# Altium schematic symbol library TI.SchLib: 93 symbols
Pins are listed as number, name and electrical type; pins without a type are passive.

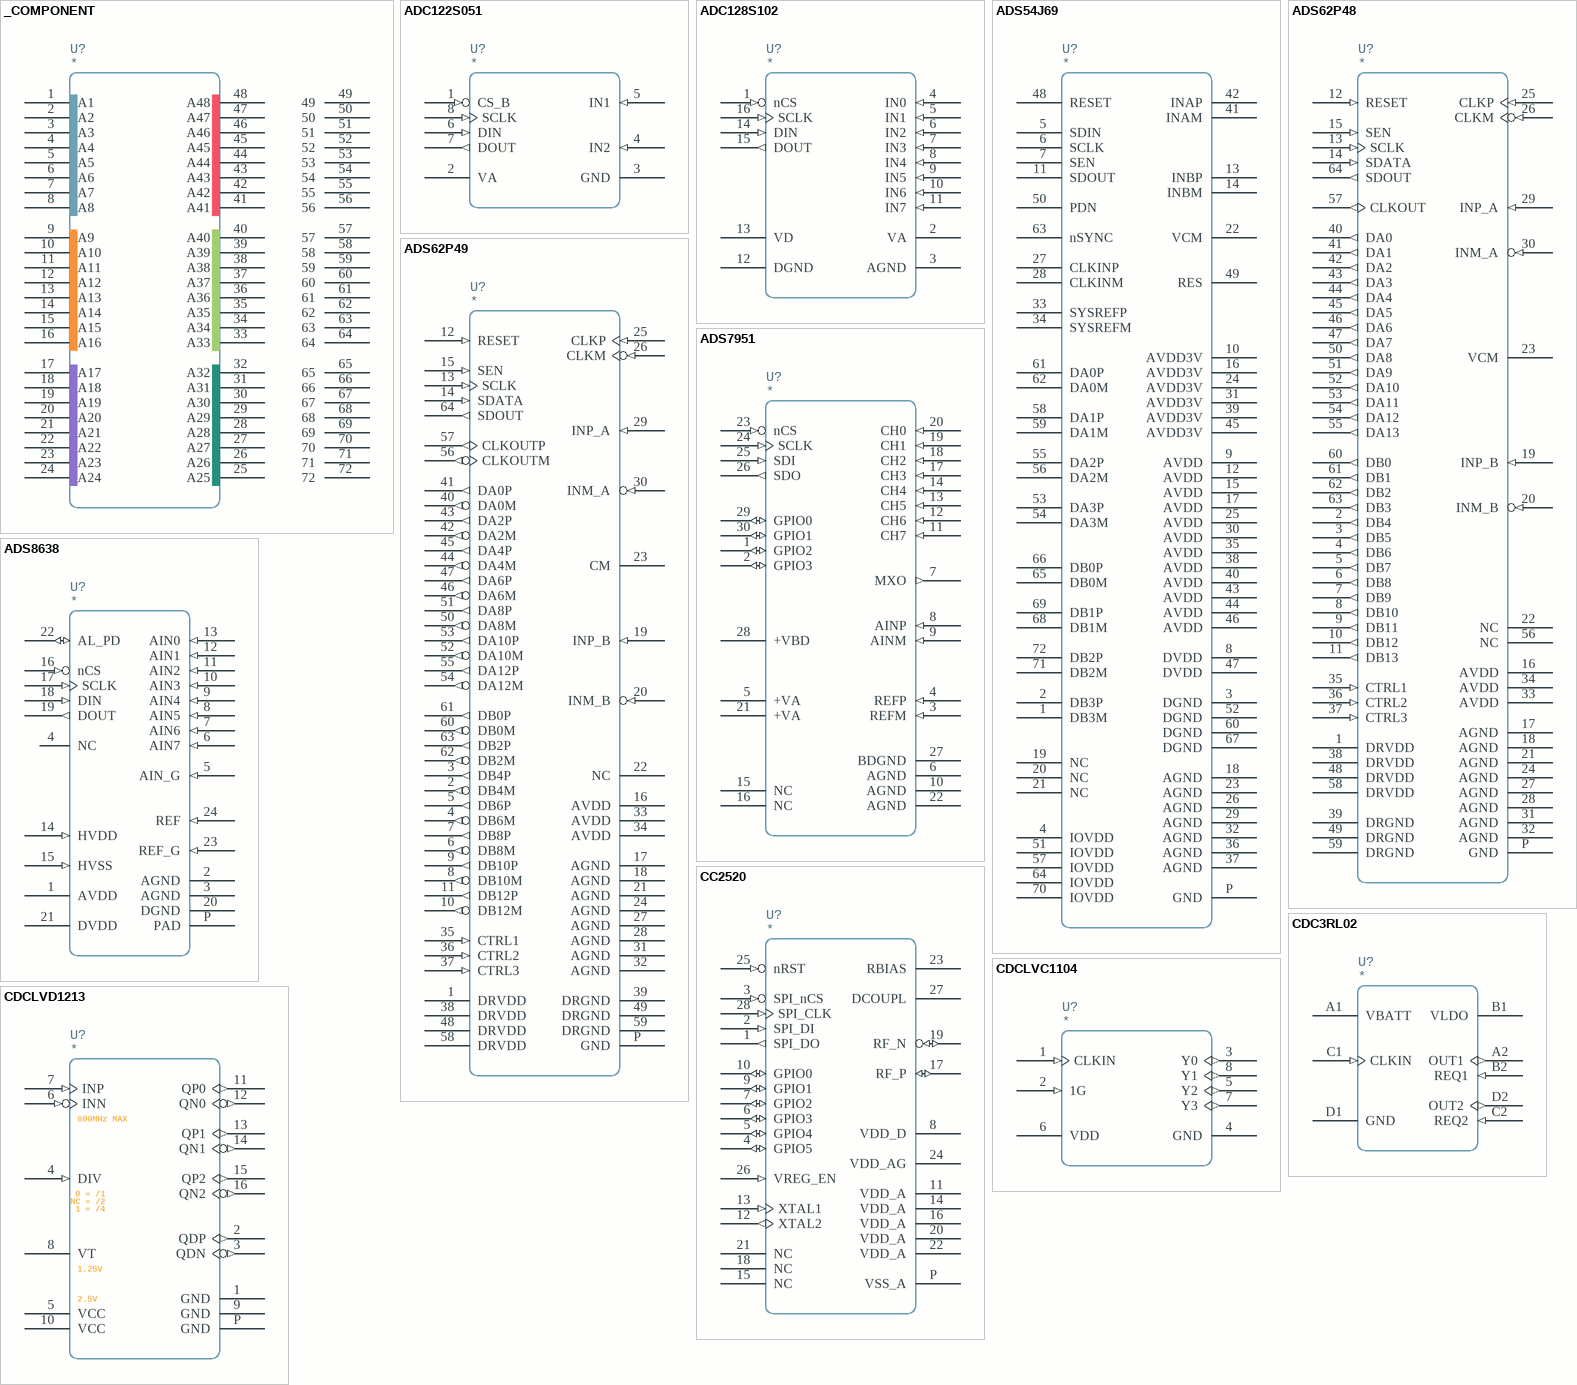
[diagram p0: symbols _COMPONENT to CDCLVD1213]

## _COMPONENT
designator U?
pins: 1 A1, 2 A2, 3 A3, 4 A4, 5 A5, 6 A6, 7 A7, 8 A8, 9 A9, 10 A10, 11 A11, 12 A12, 13 A13, 14 A14, 15 A15, 16 A16, 17 A17, 18 A18, 19 A19, 20 A20, 21 A21, 22 A22, 23 A23, 24 A24, 25 A25, 26 A26, 27 A27, 28 A28, 29 A29, 30 A30, 31 A31, 32 A32, 33 A33, 34 A34, 35 A35, 36 A36, 37 A37, 38 A38, 39 A39, 40 A40, 41 A41, 42 A42, 43 A43, 44 A44, 45 A45, 46 A46, 47 A47, 48 A48, 49, 50, 51, 52, 53, 54, 55, 56, 57, 58, 59, 60, 61, 62, 63, 64, 65, 66, 67, 68, 69, 70, 71, 72

## ADC122S051
designator U?
pins: 1 CS_B (in), 2 VA, 3 GND, 4 IN2 (in), 5 IN1 (in), 6 DIN (in), 7 DOUT (out), 8 SCLK (in)

## ADC128S102
designator U?
pins: 1 nCS (in), 2 VA, 3 AGND, 4 IN0 (in), 5 IN1 (in), 6 IN2 (in), 7 IN3 (in), 8 IN4 (in), 9 IN5 (in), 10 IN6 (in), 11 IN7 (in), 12 DGND, 13 VD, 14 DIN (in), 15 DOUT (out), 16 SCLK (in)

## ADS54J69
designator U?
pins: 1 DB3M, 2 DB3P, 3 DGND, 4 IOVDD, 5 SDIN, 6 SCLK, 7 SEN, 8 DVDD, 9 AVDD, 10 AVDD3V, 11 SDOUT, 12 AVDD, 13 INBP, 14 INBM, 15 AVDD, 16 AVDD3V, 17 AVDD, 18 AGND, 19 NC, 20 NC, 21 NC, 22 VCM, 23 AGND, 24 AVDD3V, 25 AVDD, 26 AGND, 27 CLKINP, 28 CLKINM, 29 AGND, 30 AVDD, 31 AVDD3V, 32 AGND, 33 SYSREFP, 34 SYSREFM, 35 AVDD, 36 AGND, 37 AGND, 38 AVDD, 39 AVDD3V, 40 AVDD, 41 INAM, 42 INAP, 43 AVDD, 44 AVDD, 45 AVDD3V, 46 AVDD, 47 DVDD, 48 RESET, 49 RES, 50 PDN, 51 IOVDD, 52 DGND, 53 DA3P, 54 DA3M, 55 DA2P, 56 DA2M, 57 IOVDD, 58 DA1P, 59 DA1M, 60 DGND, 61 DA0P, 62 DA0M, 63 nSYNC, 64 IOVDD, 65 DB0M, 66 DB0P, 67 DGND, 68 DB1M, 69 DB1P, 70 IOVDD, 71 DB2M, 72 DB2P, P GND

## ADS62P48
designator U?
Symbol Date: *
pins: 1 DRVDD, 2 DB4 (out), 3 DB5 (out), 4 DB6 (out), 5 DB7 (out), 6 DB8 (out), 7 DB9 (out), 8 DB10 (out), 9 DB11 (out), 10 DB12 (out), 11 DB13 (out), 12 RESET (in), 13 SCLK (in), 14 SDATA (in), 15 SEN (in), 16 AVDD, 17 AGND, 18 AGND, 19 INP_B (in), 20 INM_B (in), 21 AGND, 22 NC, 23 VCM, 24 AGND, 25 CLKP (in), 26 CLKM (in), 27 AGND, 28 AGND, 29 INP_A (in), 30 INM_A (in), 31 AGND, 32 AGND, 33 AVDD, 34 AVDD, 35 CTRL1 (in), 36 CTRL2 (in), 37 CTRL3 (in), 38 DRVDD, 39 DRGND, 40 DA0 (out), 41 DA1 (out), 42 DA2 (out), 43 DA3 (out), 44 DA4 (out), 45 DA5 (out), 46 DA6 (out), 47 DA7 (out), 48 DRVDD, 49 DRGND, 50 DA8 (out), 51 DA9 (out), 52 DA10 (out), 53 DA11 (out), 54 DA12 (out), 55 DA13 (out), 56 NC, 57 CLKOUT (out), 58 DRVDD, 59 DRGND, 60 DB0 (out), 61 DB1 (out), 62 DB2 (out), 63 DB3 (out), 64 SDOUT (out), P GND

## ADS62P49
designator U?
pins: 1 DRVDD, 2 DB4M (out), 3 DB4P (out), 4 DB6M (out), 5 DB6P (out), 6 DB8M (out), 7 DB8P (out), 8 DB10M (out), 9 DB10P (out), 10 DB12M (out), 11 DB12P (out), 12 RESET (in), 13 SCLK (in), 14 SDATA (in), 15 SEN (in), 16 AVDD, 17 AGND, 18 AGND, 19 INP_B (in), 20 INM_B (in), 21 AGND, 22 NC, 23 CM, 24 AGND, 25 CLKP (in), 26 CLKM (in), 27 AGND, 28 AGND, 29 INP_A (in), 30 INM_A (in), 31 AGND, 32 AGND, 33 AVDD, 34 AVDD, 35 CTRL1 (in), 36 CTRL2 (in), 37 CTRL3 (in), 38 DRVDD, 39 DRGND, 40 DA0M (out), 41 DA0P (out), 42 DA2M (out), 43 DA2P (out), 44 DA4M (out), 45 DA4P (out), 46 DA6M (out), 47 DA6P (out), 48 DRVDD, 49 DRGND, 50 DA8M (out), 51 DA8P (out), 52 DA10M (out), 53 DA10P (out), 54 DA12M (out), 55 DA12P (out), 56 CLKOUTM (out), 57 CLKOUTP (out), 58 DRVDD, 59 DRGND, 60 DB0M (out), 61 DB0P (out), 62 DB2M (out), 63 DB2P (out), 64 SDOUT (out), P GND

## ADS7951
designator U?
pins: 1 GPIO2 (io), 2 GPIO3 (io), 3 REFM (in), 4 REFP (in), 5 +VA, 6 AGND, 7 MXO (out), 8 AINP (in), 9 AINM (in), 10 AGND, 11 CH7 (in), 12 CH6 (in), 13 CH5 (in), 14 CH4 (in), 15 NC, 16 NC, 17 CH3 (in), 18 CH2 (in), 19 CH1 (in), 20 CH0 (in), 21 +VA, 22 AGND, 23 nCS (in), 24 SCLK (in), 25 SDI (in), 26 SDO (out), 27 BDGND, 28 +VBD, 29 GPIO0 (io), 30 GPIO1 (io)

## ADS8638
designator U?
pins: 1 AVDD, 2 AGND, 3 AGND, 4 NC, 5 AIN_G (in), 6 AIN7 (in), 7 AIN6 (in), 8 AIN5 (in), 9 AIN4 (in), 10 AIN3 (in), 11 AIN2 (in), 12 AIN1 (in), 13 AIN0 (in), 14 HVDD (in), 15 HVSS (in), 16 nCS (in), 17 SCLK (in), 18 DIN (in), 19 DOUT (out), 20 DGND, 21 DVDD, 22 AL_PD (io), 23 REF_G (in), 24 REF (in), P PAD

## CC2520
designator U?
PartNumber: CC2520RHDTG4; Value: CC2520; PinCountSMD: 29; PinCountHole: 0; Vendor: TI; Desinger: shyul; PCBMarker: ZigBee; Version: 1.0; VersionDate: 05-08-2011; Publisher: Cowin; SerialNumber: 0; Supplier 1: Digi-Key; Supplier Part Number 1: 296-22996-2-ND
footprint QFN-5-28
pins: 1 SPI_DO (out), 2 SPI_DI (in), 3 SPI_nCS (in), 4 GPIO5 (io), 5 GPIO4 (io), 6 GPIO3 (io), 7 GPIO2 (io), 8 VDD_D (power), 9 GPIO1 (io), 10 GPIO0 (io), 11 VDD_A (power), 12 XTAL2 (out), 13 XTAL1 (in), 14 VDD_A (power), 15 NC, 16 VDD_A (power), 17 RF_P (io), 18 NC, 19 RF_N (io), 20 VDD_A (power), 21 NC, 22 VDD_A (power), 23 RBIAS, 24 VDD_AG (power), 25 nRST (in), 26 VREG_EN (in), 27 DCOUPL, 28 SPI_CLK (in), P VSS_A (power)

## CDC3RL02
designator U?
Vendor: *; Value: *; SN-NI-ECHO: *; Version: *; Symbol Date: *; PN-MFG: *
footprint CDC3RL02YFPR (8-PIN VFP BGA)
pins: A1 VBATT, A2 OUT1 (out), B1 VLDO (power), B2 REQ1 (in), C1 CLKIN (in), C2 REQ2 (in), D1 GND, D2 OUT2 (out)

## CDCLVC1104
designator U?
pins: 1 CLKIN (in), 2 1G (in), 3 Y0 (out), 4 GND, 5 Y2 (out), 6 VDD, 7 Y3 (out), 8 Y1 (out)

## CDCLVD1213
designator U?
pins: 1 GND, 2 QDP (out), 3 QDN (out), 4 DIV (in), 5 VCC, 6 INN (in), 7 INP (in), 8 VT, 9 GND, 10 VCC, 11 QP0 (out), 12 QN0 (out), 13 QP1 (out), 14 QN1 (out), 15 QP2 (out), 16 QN2 (out), P GND
text: 800MHz MAX; 0 = /1; NC = /2; 1 = /4; 1.25V; 2.5V

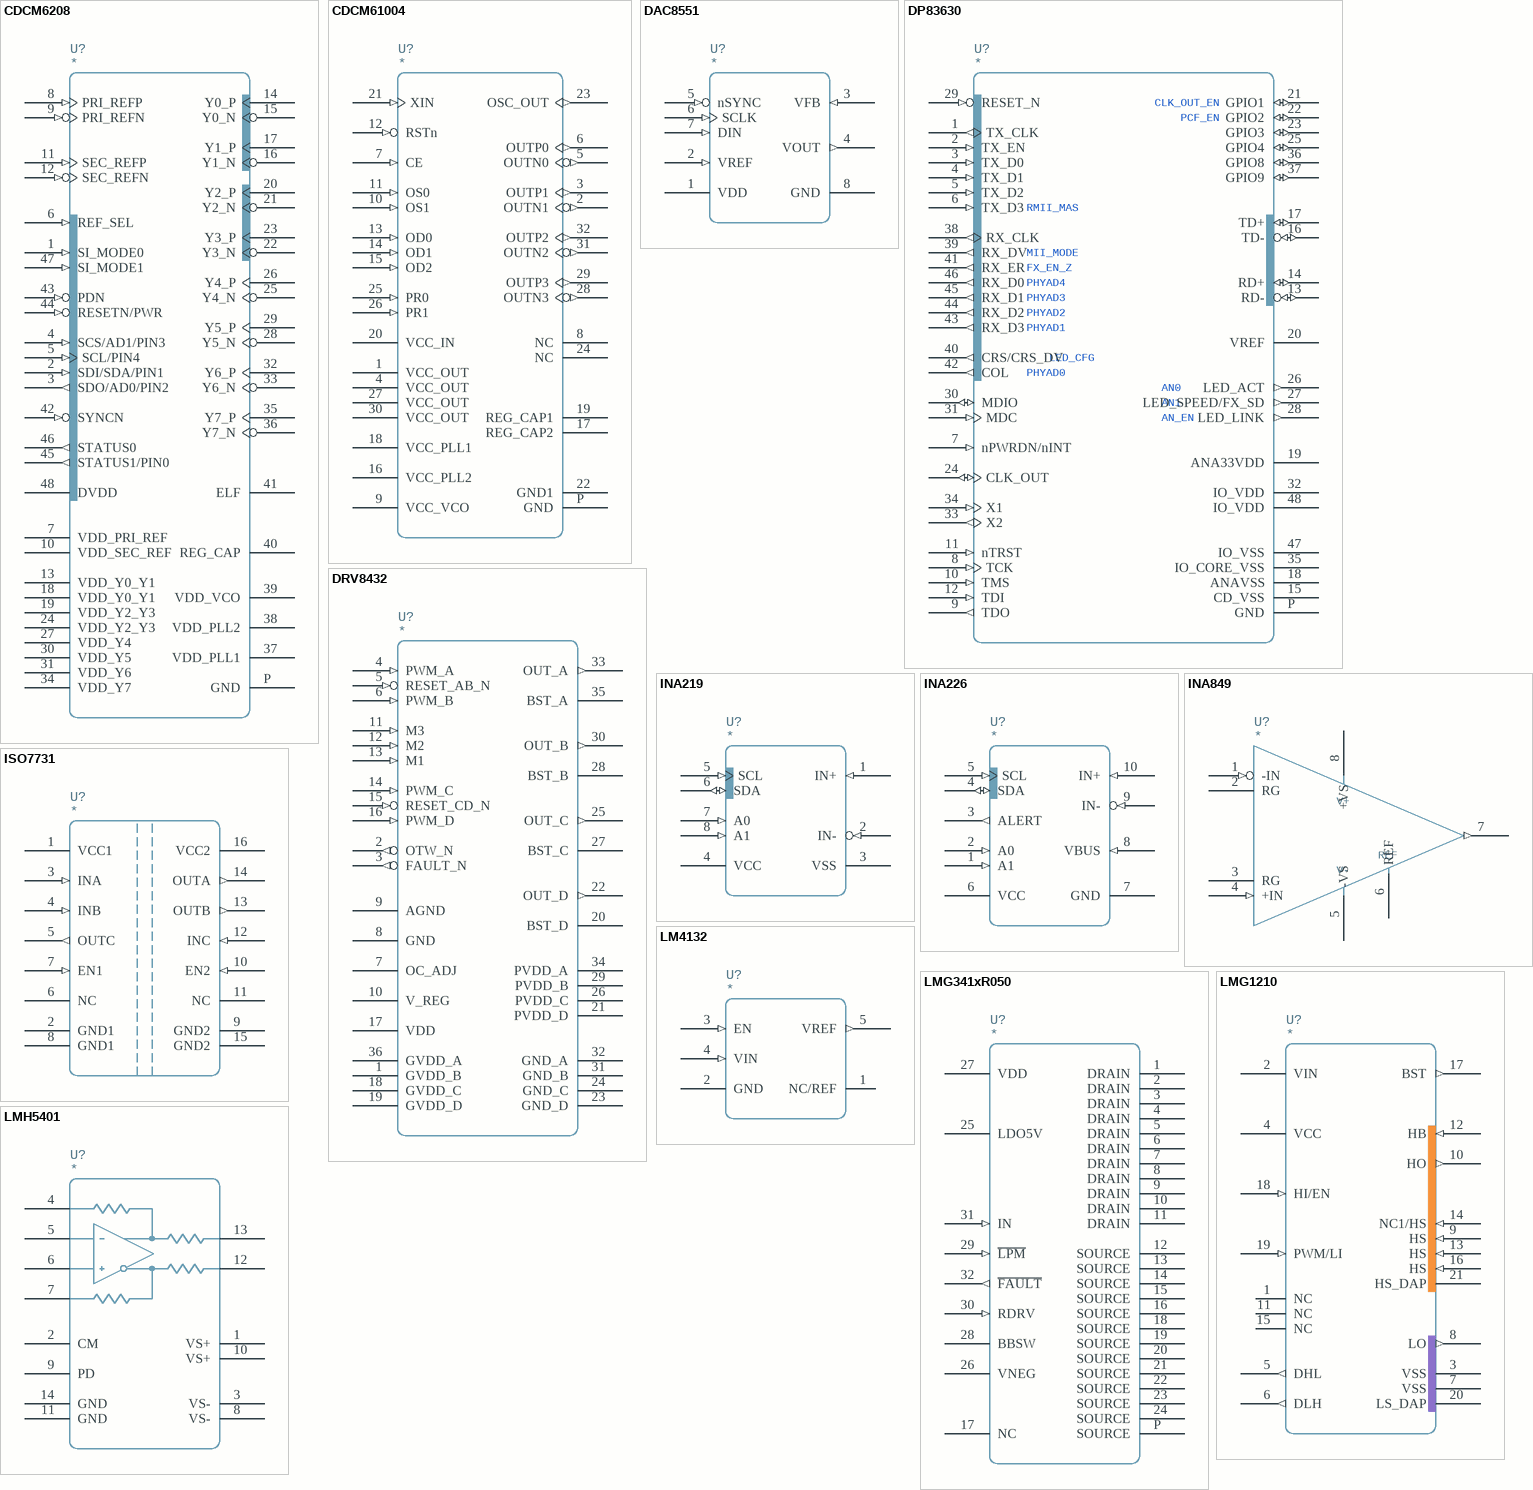
[diagram p1: symbols CDCM6208 to LMH5401]

## CDCM6208
designator U?
pins: 1 SI_MODE0 (in), 2 SDI/SDA/PIN1 (in), 3 SDO/AD0/PIN2 (out), 4 SCS/AD1/PIN3 (in), 5 SCL/PIN4 (in), 6 REF_SEL (in), 7 VDD_PRI_REF, 8 PRI_REFP (in), 9 PRI_REFN (in), 10 VDD_SEC_REF, 11 SEC_REFP (in), 12 SEC_REFN (in), 13 VDD_Y0_Y1, 14 Y0_P, 15 Y0_N, 16 Y1_N, 17 Y1_P, 18 VDD_Y0_Y1, 19 VDD_Y2_Y3, 20 Y2_P, 21 Y2_N, 22 Y3_N, 23 Y3_P, 24 VDD_Y2_Y3, 25 Y4_N, 26 Y4_P, 27 VDD_Y4, 28 Y5_N, 29 Y5_P, 30 VDD_Y5, 31 VDD_Y6, 32 Y6_P, 33 Y6_N, 34 VDD_Y7, 35 Y7_P, 36 Y7_N, 37 VDD_PLL1, 38 VDD_PLL2, 39 VDD_VCO, 40 REG_CAP, 41 ELF, 42 SYNCN (in), 43 PDN (in), 44 RESETN/PWR (in), 45 STATUS1/PIN0 (out), 46 STATUS0 (out), 47 SI_MODE1 (in), 48 DVDD, P GND

## CDCM61004
designator U?
Symbol Date: *
pins: 1 VCC_OUT, 2 OUTN1 (out), 3 OUTP1 (out), 4 VCC_OUT, 5 OUTN0 (out), 6 OUTP0 (out), 7 CE (in), 8 NC, 9 VCC_VCO, 10 OS1 (in), 11 OS0 (in), 12 RSTn (in), 13 OD0 (in), 14 OD1 (in), 15 OD2 (in), 16 VCC_PLL2, 17 REG_CAP2, 18 VCC_PLL1, 19 REG_CAP1, 20 VCC_IN, 21 XIN (in), 22 GND1, 23 OSC_OUT (out), 24 NC, 25 PR0 (in), 26 PR1 (in), 27 VCC_OUT, 28 OUTN3 (out), 29 OUTP3 (out), 30 VCC_OUT, 31 OUTN2 (out), 32 OUTP2 (out), P GND

## DAC8551
designator U?
pins: 1 VDD, 2 VREF (in), 3 VFB (in), 4 VOUT (out), 5 nSYNC (in), 6 SCLK (in), 7 DIN (in), 8 GND

## DP83630
designator U?
pins: 1 TX_CLK (out), 2 TX_EN (in), 3 TX_D0 (in), 4 TX_D1 (in), 5 TX_D2 (in), 6 TX_D3 (in), 7 nPWRDN/nINT (in), 8 TCK (in), 9 TDO (out), 10 TMS (in), 11 nTRST (in), 12 TDI (in), 13 RD- (io), 14 RD+ (io), 15 CD_VSS, 16 TD- (io), 17 TD+ (io), 18 ANAVSS, 19 ANA33VDD, 20 VREF, 21 GPIO1 (io), 22 GPIO2 (io), 23 GPIO3 (io), 24 CLK_OUT (io), 25 GPIO4 (io), 26 LED_ACT (out), 27 LED_SPEED/FX_SD (out), 28 LED_LINK (out), 29 RESET_N (in), 30 MDIO (io), 31 MDC (in), 32 IO_VDD, 33 X2 (out), 34 X1 (in), 35 IO_CORE_VSS, 36 GPIO8 (io), 37 GPIO9 (io), 38 RX_CLK (out), 39 RX_DV (out), 40 CRS/CRS_DV (out), 41 RX_ER (out), 42 COL (out), 43 RX_D3 (out), 44 RX_D2 (out), 45 RX_D1 (out), 46 RX_D0 (out), 47 IO_VSS, 48 IO_VDD, P GND
text: CLK_OUT_EN; PCF_EN; RMII_MAS; MII_MODE; FX_EN_Z; PHYAD4; PHYAD3; PHYAD2; PHYAD1; LED_CFG; PHYAD0; AN0; AN1; AN_EN

## DRV8432
designator U?
pins: 1 GVDD_B, 2 OTW_N (out), 3 FAULT_N (out), 4 PWM_A (in), 5 RESET_AB_N (in), 6 PWM_B (in), 7 OC_ADJ, 8 GND, 9 AGND, 10 V_REG, 11 M3 (in), 12 M2 (in), 13 M1 (in), 14 PWM_C (in), 15 RESET_CD_N (in), 16 PWM_D (in), 17 VDD, 18 GVDD_C, 19 GVDD_D, 20 BST_D, 21 PVDD_D, 22 OUT_D (out), 23 GND_D, 24 GND_C, 25 OUT_C (out), 26 PVDD_C, 27 BST_C, 28 BST_B, 29 PVDD_B, 30 OUT_B (out), 31 GND_B, 32 GND_A, 33 OUT_A (out), 34 PVDD_A, 35 BST_A, 36 GVDD_A

## INA219
designator U?
pins: 1 IN+ (in), 2 IN- (in), 3 VSS, 4 VCC, 5 SCL (in), 6 SDA (io), 7 A0 (in), 8 A1 (in)

## INA226
designator U?
pins: 1 A1 (in), 2 A0 (in), 3 ALERT (out), 4 SDA (io), 5 SCL (in), 6 VCC, 7 GND, 8 VBUS (in), 9 IN- (in), 10 IN+ (in)

## INA849
designator U?
pins: 1 -IN (in), 2 RG, 3 RG, 4 +IN (in), 5 -VS, 6 REF, 7 OUT (out), 8 +VS
text: V+; V-

## ISO7731
designator U?
pins: 1 VCC1 (power), 2 GND1 (power), 3 INA (in), 4 INB (in), 5 OUTC (out), 6 NC, 7 EN1 (in), 8 GND1 (power), 9 GND2 (power), 10 EN2 (in), 11 NC, 12 INC (in), 13 OUTB (out), 14 OUTA (out), 15 GND2 (power), 16 VCC2 (power)

## LM4132
designator U?
pins: 1 NC/REF, 2 GND, 3 EN (in), 4 VIN (in), 5 VREF (out)

## LMG341xR050
designator U?
pins: 1 DRAIN, 2 DRAIN, 3 DRAIN, 4 DRAIN, 5 DRAIN, 6 DRAIN, 7 DRAIN, 8 DRAIN, 9 DRAIN, 10 DRAIN, 11 DRAIN, 12 SOURCE, 13 SOURCE, 14 SOURCE, 15 SOURCE, 16 SOURCE, 17 NC, 18 SOURCE, 19 SOURCE, 20 SOURCE, 21 SOURCE, 22 SOURCE, 23 SOURCE, 24 SOURCE (power), 25 LDO5V (power), 26 VNEG (power), 27 VDD (power), 28 BBSW (power), 29 ~{LPM} (in), 30 RDRV (in), 31 IN (in), 32 ~{FAULT} (out), P SOURCE (power)

## LMG1210
designator U?
pins: 1 NC, 2 VIN (power), 3 VSS (power), 4 VCC (power), 5 DHL (out), 6 DLH (out), 7 VSS (power), 8 LO (out), 9 HS (in), 10 HO (out), 11 NC, 12 HB (in), 13 HS (in), 14 NC1/HS (in), 15 NC, 16 HS (in), 17 BST (out), 18 HI/EN (in), 19 PWM/LI (in), 20 LS_DAP, 21 HS_DAP

## LMH5401
designator U?
pins: 1 VS+, 2 CM, 3 VS-, 4 FB+, 5 IN-, 6 IN+, 7 FB-, 8 VS-, 9 PD, 10 VS+, 11 GND, 12 OUT-, 13 OUT+, 14 GND

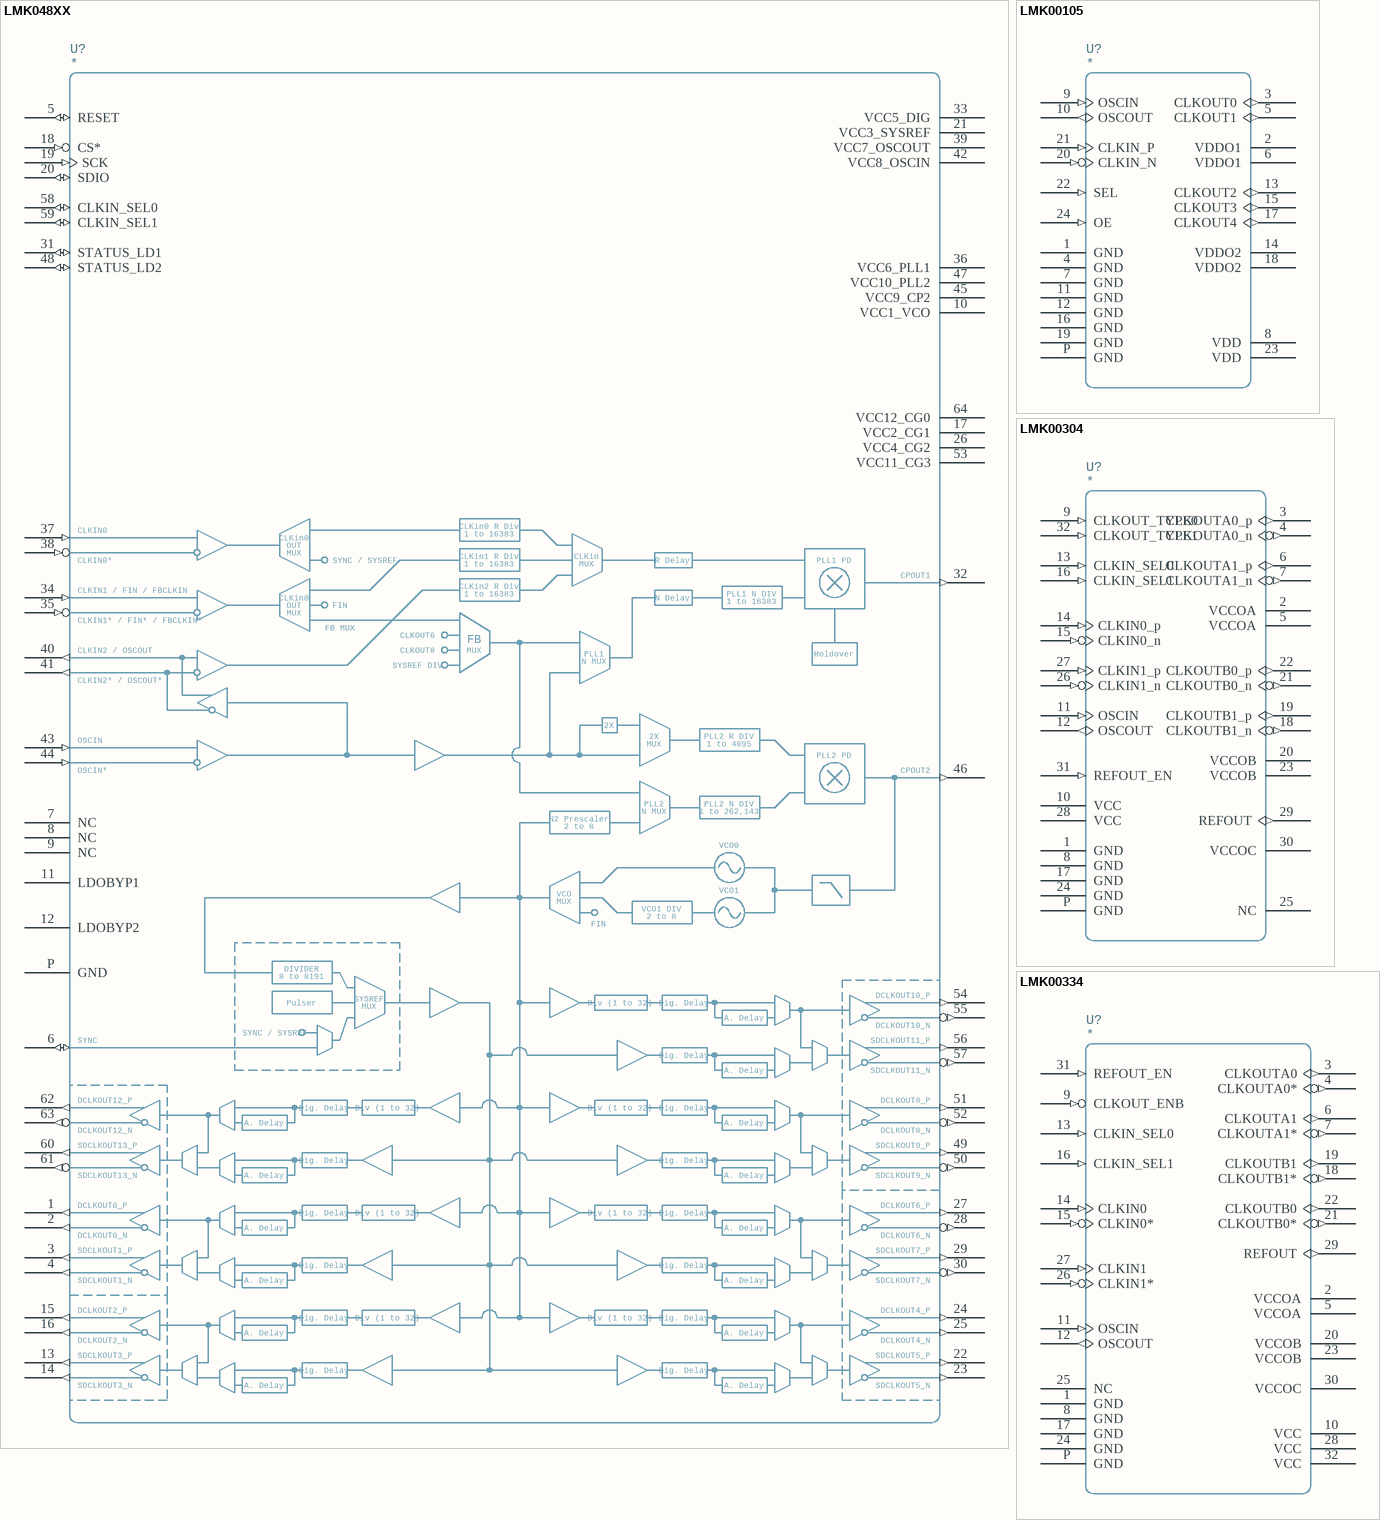
[diagram p2: symbols LMK048XX to LMK00334]

## LMK048XX
designator U?
Symbol Date: *
pins: 1 DCLKOUT0 (out), 2 DCLKOUT0* (out), 3 SDCLKOUT1 (out), 4 SDCLKOUT1* (out), 5 RESET (io), 6 SYNC (io), 7 NC, 8 NC, 9 NC, 10 VCC1_VCO, 11 LDOBYP1, 12 LDOBYP2, 13 SDCLKOUT3 (out), 14 SDCLKOUT3* (out), 15 DCLKOUT2 (out), 16 DCLKOUT2* (out), 17 VCC2_CG1 (power), 18 CS* (in), 19 SCK (in), 20 SDIO (io), 21 VCC3_SYSREF (power), 22 SDCLKOUT5 (out), 23 SDCLKOUT5* (out), 24 DCLKOUT4 (out), 25 DCLKOUT4* (out), 26 VCC4_CG2 (power), 27 DCLKOUT6 (out), 28 DCLKOUT6* (out), 29 SDCLKOUT7 (out), 30 SDCLKOUT7* (out), 31 STATUS_LD1 (io), 32 CPOUT1 (out), 33 VCC5_DIG (power), 34 CLKIN1_FIN_FBCLKIN (in), 35 CLKIN1*_FIN*_FBCLKIN* (in), 36 VCC6_PLL1 (power), 37 CLKIN0 (in), 38 CLKIN0* (in), 39 VCC7_OSCOUT, 40 OSCOUT (out), 41 OSCOUT* (out), 42 VCC8_OSCIN (power), 43 OSCIN (in), 44 OSCIN* (in), 45 VCC9_CP2 (power), 46 CPOUT2 (out), 47 VCC10_PLL2 (power), 48 STATUS_LD2 (io), 49 SDCLKOUT9 (out), 50 SDCLKOUT9* (out), 51 DCLKOUT8 (out), 52 DCLKOUT8* (out), 53 VCC11_CG3 (power), 54 DCLKOUT10 (out), 55 DCLKOUT10* (out), 56 SDCLKOUT11 (out), 57 SDCLKOUT11* (out), 58 CLKIN_SEL0 (io), 59 CLKIN_SEL1 (io), 60 SDCLKOUT13 (out), 61 SDCLKOUT13* (out), 62 DCLKOUT12 (out), 63 DCLKOUT12* (out), 64 VCC12_CG0 (power), P GND (power)
text: CLKin0 R Div; CLKin0; 1 to 16383; OUT; MUX; CLKin1 R Div; CLKin; SYNC / SYSREF; R Delay; PLL1 PD; CLKin2 R Div; CLKIN1 / FIN / FBCLKIN; N Delay; PLL1 N DIV; FIN; CLKIN1* / FIN* / FBCLKIN*; FB MUX; CLKOUT6; FB; CLKIN2 / OSCOUT; CLKOUT8; PLL1; N MUX; Holdover; SYSREF DIV; CLKIN2* / OSCOUT*; 2X; PLL2 R DIV; 1 to 4095; PLL2 PD; PLL2; PLL2 N DIV; 1 to 262,143; N2 Prescaler; 2 to 8; VCO0; VCO1; VCO; VCO1 DIV; DIVIDER; 8 to 8191; DCLKOUT10_P; Pulser; SYSREF; Div (1 to 32); Dig. Delay; A. Delay; DCLKOUT10_N; SDCLKOUT11_P; SDCLKOUT11_N; DCLKOUT12_P; DCLKOUT8_P; DCLKOUT12_N; DCLKOUT8_N; SDCLKOUT13_P; SDCLKOUT9_P; SDCLKOUT13_N; SDCLKOUT9_N; DCLKOUT0_P; DCLKOUT6_P; DCLKOUT0_N; DCLKOUT6_N; SDCLKOUT1_P; SDCLKOUT7_P; SDCLKOUT1_N; SDCLKOUT7_N; DCLKOUT2_P; DCLKOUT4_P; DCLKOUT2_N; DCLKOUT4_N; SDCLKOUT3_P; SDCLKOUT5_P; SDCLKOUT3_N; SDCLKOUT5_N

## LMK00105
designator U?
Symbol Date: *
pins: 1 GND, 2 VDDO1, 3 CLKOUT0 (out), 4 GND, 5 CLKOUT1 (out), 6 VDDO1, 7 GND, 8 VDD, 9 OSCIN (in), 10 OSCOUT (out), 11 GND, 12 GND, 13 CLKOUT2 (out), 14 VDDO2, 15 CLKOUT3 (out), 16 GND, 17 CLKOUT4 (out), 18 VDDO2, 19 GND, 20 CLKIN_N (in), 21 CLKIN_P (in), 22 SEL (in), 23 VDD, 24 OE (in), P GND

## LMK00304
designator U?
Symbol Date: *
pins: 1 GND, 2 VCCOA, 3 CLKOUTA0_p (out), 4 CLKOUTA0_n (out), 5 VCCOA, 6 CLKOUTA1_p (out), 7 CLKOUTA1_n (out), 8 GND, 9 CLKOUT_TYPE0 (in), 10 VCC, 11 OSCIN (in), 12 OSCOUT (out), 13 CLKIN_SEL0 (in), 14 CLKIN0_p (in), 15 CLKIN0_n (in), 16 CLKIN_SEL1 (in), 17 GND, 18 CLKOUTB1_n (out), 19 CLKOUTB1_p (out), 20 VCCOB, 21 CLKOUTB0_n (out), 22 CLKOUTB0_p (out), 23 VCCOB, 24 GND, 25 NC, 26 CLKIN1_n (in), 27 CLKIN1_p (in), 28 VCC, 29 REFOUT (out), 30 VCCOC, 31 REFOUT_EN (in), 32 CLKOUT_TYPE1 (in), P GND

## LMK00334
designator U?
pins: 1 GND, 2 VCCOA, 3 CLKOUTA0 (out), 4 CLKOUTA0* (out), 5 VCCOA, 6 CLKOUTA1 (out), 7 CLKOUTA1* (out), 8 GND, 9 CLKOUT_ENB (in), 10 VCC, 11 OSCIN (in), 12 OSCOUT (out), 13 CLKIN_SEL0 (in), 14 CLKIN0 (in), 15 CLKIN0* (in), 16 CLKIN_SEL1 (in), 17 GND, 18 CLKOUTB1* (out), 19 CLKOUTB1 (out), 20 VCCOB, 21 CLKOUTB0* (out), 22 CLKOUTB0 (out), 23 VCCOB, 24 GND, 25 NC, 26 CLKIN1* (in), 27 CLKIN1 (in), 28 VCC, 29 REFOUT (out), 30 VCCOC, 31 REFOUT_EN (in), 32 VCC, P GND

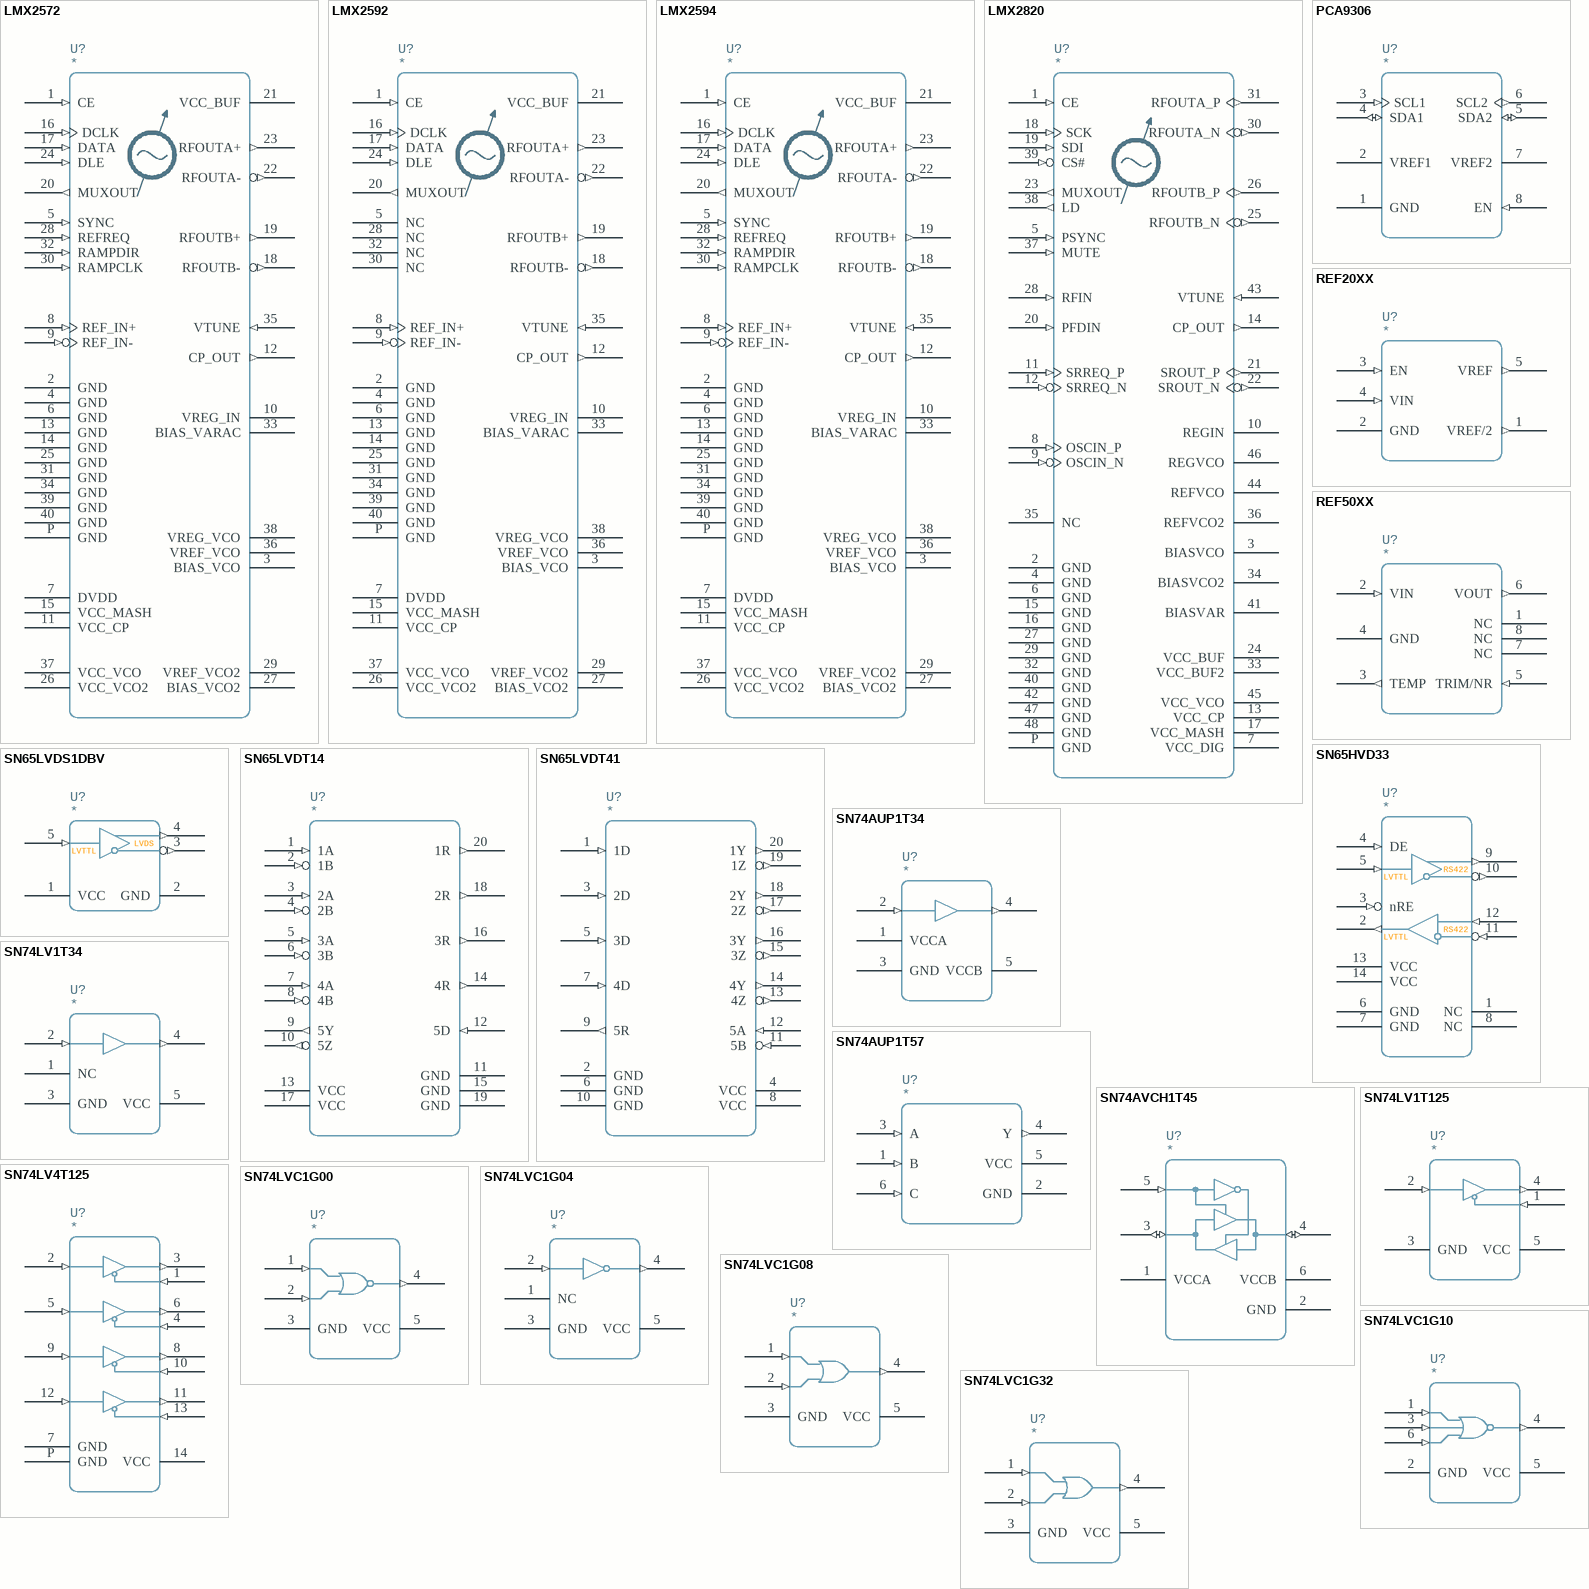
[diagram p3: symbols LMX2572 to SN74LVC1G32]

## LMX2572
designator U?
pins: 1 CE (in), 2 GND, 3 BIAS_VCO, 4 GND, 5 SYNC (in), 6 GND, 7 DVDD, 8 REF_IN+ (in), 9 REF_IN- (in), 10 VREG_IN, 11 VCC_CP, 12 CP_OUT (out), 13 GND, 14 GND, 15 VCC_MASH, 16 DCLK (in), 17 DATA (in), 18 RFOUTB- (out), 19 RFOUTB+ (out), 20 MUXOUT (out), 21 VCC_BUF, 22 RFOUTA- (out), 23 RFOUTA+ (out), 24 DLE (in), 25 GND, 26 VCC_VCO2, 27 BIAS_VCO2, 28 REFREQ (in), 29 VREF_VCO2, 30 RAMPCLK (in), 31 GND, 32 RAMPDIR (in), 33 BIAS_VARAC, 34 GND, 35 VTUNE (in), 36 VREF_VCO, 37 VCC_VCO, 38 VREG_VCO, 39 GND, 40 GND, P GND

## LMX2592
designator U?
pins: 1 CE (in), 2 GND, 3 BIAS_VCO, 4 GND, 5 NC, 6 GND, 7 DVDD, 8 REF_IN+ (in), 9 REF_IN- (in), 10 VREG_IN, 11 VCC_CP, 12 CP_OUT (out), 13 GND, 14 GND, 15 VCC_MASH, 16 DCLK (in), 17 DATA (in), 18 RFOUTB- (out), 19 RFOUTB+ (out), 20 MUXOUT (out), 21 VCC_BUF, 22 RFOUTA- (out), 23 RFOUTA+ (out), 24 DLE (in), 25 GND, 26 VCC_VCO2, 27 BIAS_VCO2, 28 NC, 29 VREF_VCO2, 30 NC, 31 GND, 32 NC, 33 BIAS_VARAC, 34 GND, 35 VTUNE (in), 36 VREF_VCO, 37 VCC_VCO, 38 VREG_VCO, 39 GND, 40 GND, P GND

## LMX2594
designator U?
pins: 1 CE (in), 2 GND, 3 BIAS_VCO, 4 GND, 5 SYNC (in), 6 GND, 7 DVDD, 8 REF_IN+ (in), 9 REF_IN- (in), 10 VREG_IN, 11 VCC_CP, 12 CP_OUT (out), 13 GND, 14 GND, 15 VCC_MASH, 16 DCLK (in), 17 DATA (in), 18 RFOUTB- (out), 19 RFOUTB+ (out), 20 MUXOUT (out), 21 VCC_BUF, 22 RFOUTA- (out), 23 RFOUTA+ (out), 24 DLE (in), 25 GND, 26 VCC_VCO2, 27 BIAS_VCO2, 28 REFREQ (in), 29 VREF_VCO2, 30 RAMPCLK (in), 31 GND, 32 RAMPDIR (in), 33 BIAS_VARAC, 34 GND, 35 VTUNE (in), 36 VREF_VCO, 37 VCC_VCO, 38 VREG_VCO, 39 GND, 40 GND, P GND

## LMX2820
designator U?
pins: 1 CE (in), 2 GND, 3 BIASVCO, 4 GND, 5 PSYNC (in), 6 GND, 7 VCC_DIG, 8 OSCIN_P (in), 9 OSCIN_N (in), 10 REGIN, 11 SRREQ_P (in), 12 SRREQ_N (in), 13 VCC_CP, 14 CP_OUT (out), 15 GND, 16 GND, 17 VCC_MASH, 18 SCK (in), 19 SDI (in), 20 PFDIN (in), 21 SROUT_P (out), 22 SROUT_N (out), 23 MUXOUT (out), 24 VCC_BUF, 25 RFOUTB_N (out), 26 RFOUTB_P (out), 27 GND, 28 RFIN (in), 29 GND, 30 RFOUTA_N (out), 31 RFOUTA_P (out), 32 GND, 33 VCC_BUF2, 34 BIASVCO2, 35 NC, 36 REFVCO2, 37 MUTE (in), 38 LD (out), 39 CS# (in), 40 GND, 41 BIASVAR, 42 GND, 43 VTUNE (in), 44 REFVCO, 45 VCC_VCO, 46 REGVCO, 47 GND, 48 GND, P GND

## PCA9306
designator U?
pins: 1 GND, 2 VREF1, 3 SCL1 (in), 4 SDA1 (io), 5 SDA2 (io), 6 SCL2 (out), 7 VREF2, 8 EN (in)

## REF20XX
designator U?
pins: 1 VREF/2 (out), 2 GND, 3 EN (in), 4 VIN (in), 5 VREF (out)

## REF50XX
designator U?
pins: 1 NC, 2 VIN (in), 3 TEMP (out), 4 GND, 5 TRIM/NR (in), 6 VOUT (out), 7 NC, 8 NC

## SN65HVD33
designator U?
Vendor: *; Value: *; SN-NI-ECHO: *; Version: *; Symbol Date: *; PN-MFG: *
footprint CDC3RL02YFPR (8-PIN VFP BGA)
pins: 1 NC, 2 R (out), 3 nRE (in), 4 DE (in), 5 D (in), 6 GND, 7 GND, 8 NC, 9 Y (out), 10 Z (out), 11 B (in), 12 A (in), 13 VCC, 14 VCC
text: RS422; LVTTL

## SN65LVDS1DBV
designator U?
Vendor: *; Value: *; SN-NI-ECHO: *; Version: *; Symbol Date: *; PN-MFG: *
footprint CDC3RL02YFPR (8-PIN VFP BGA)
pins: 1 VCC, 2 GND, 3 A3 (out), 4 A4 (out), 5 A5 (in)
text: LVDS; LVTTL

## SN65LVDT14
designator U?
pins: 1 1A (in), 2 1B (in), 3 2A (in), 4 2B (in), 5 3A (in), 6 3B (in), 7 4A (in), 8 4B (in), 9 5Y (out), 10 5Z (out), 11 GND, 12 5D (in), 13 VCC, 14 4R (out), 15 GND, 16 3R (out), 17 VCC, 18 2R (out), 19 GND, 20 1R (out)

## SN65LVDT41
designator U?
pins: 1 1D (in), 2 GND, 3 2D (in), 4 VCC, 5 3D (in), 6 GND, 7 4D (in), 8 VCC, 9 5R (out), 10 GND, 11 5B (in), 12 5A (in), 13 4Z (out), 14 4Y (out), 15 3Z (out), 16 3Y (out), 17 2Z (out), 18 2Y (out), 19 1Z (out), 20 1Y (out)

## SN74AUP1T34
designator U?
pins: 1 VCCA, 2 A (in), 3 GND, 4 Y (out), 5 VCCB

## SN74AUP1T57
designator U?
footprint TI-SON-6-DRY
pins: 1 B (in), 2 GND, 3 A (in), 4 Y (out), 5 VCC, 6 C (in)

## SN74AVCH1T45
designator U?
pins: 1 VCCA, 2 GND, 3 A (io), 4 B (io), 5 DIR (in), 6 VCCB

## SN74LV1T34
designator U?
pins: 1 NC, 2 A (in), 3 GND, 4 Y (out), 5 VCC

## SN74LV1T125
designator U?
pins: 1 nOE (in), 2 A (in), 3 GND, 4 Y (out), 5 VCC

## SN74LV4T125
designator U?
pins: 1 nOE1 (in), 2 A1 (in), 3 Y1 (out), 4 nOE2 (in), 5 A2 (in), 6 Y2 (out), 7 GND, 8 Y3 (out), 9 A3 (in), 10 nOE3 (in), 11 Y4 (out), 12 A4 (in), 13 nOE4 (in), 14 VCC, P GND

## SN74LVC1G00
designator U?
pins: 1 A (in), 2 B (in), 3 GND, 4 Y (out), 5 VCC

## SN74LVC1G04
designator U?
pins: 1 NC, 2 A (in), 3 GND, 4 Y (out), 5 VCC

## SN74LVC1G08
designator U?
pins: 1 A (in), 2 B (in), 3 GND, 4 Y (out), 5 VCC

## SN74LVC1G10
designator U?
pins: 1 A (in), 2 GND, 3 B (in), 4 Y (out), 5 VCC, 6 C (in)

## SN74LVC1G32
designator U?
pins: 1 A (in), 2 B (in), 3 GND, 4 Y (out), 5 VCC

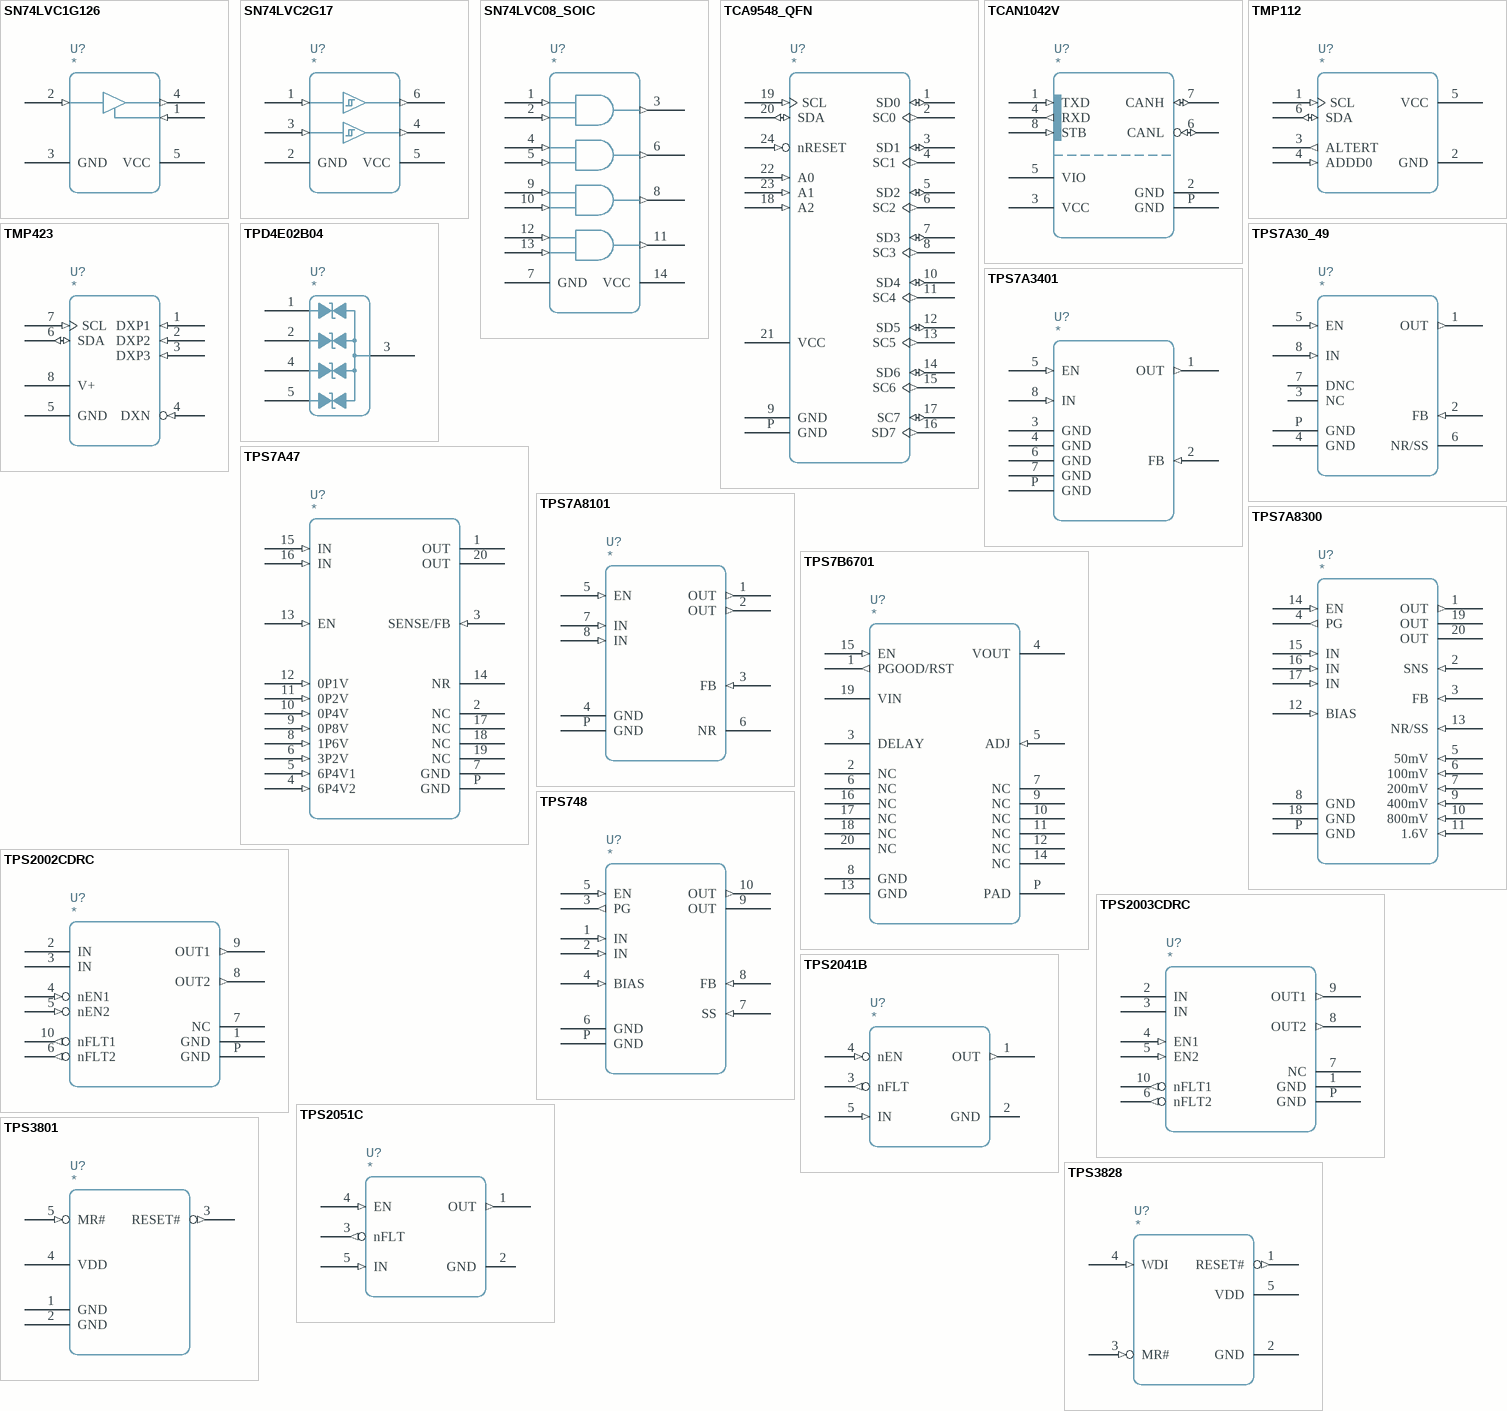
[diagram p4: symbols SN74LVC1G126 to TPS3828]

## SN74LVC1G126
designator U?
pins: 1 OE1 (in), 2 A1 (in), 3 GND, 4 Y1 (out), 5 VCC

## SN74LVC2G17
designator U?
pins: 1 1A (in), 2 GND, 3 2A (in), 4 2Y (out), 5 VCC, 6 1Y (out)

## SN74LVC08_SOIC
designator U?
pins: 1 1A (in), 2 1B (in), 3 1Y (out), 4 2A (in), 5 2B (in), 6 2Y (out), 7 GND, 8 3Y (out), 9 3A (in), 10 3B (in), 11 4Y (out), 12 4A (in), 13 4B (in), 14 VCC

## TCA9548_QFN
designator U?
pins: 1 SD0 (io), 2 SC0 (out), 3 SD1 (io), 4 SC1 (out), 5 SD2 (io), 6 SC2 (out), 7 SD3 (io), 8 SC3 (out), 9 GND, 10 SD4 (io), 11 SC4 (out), 12 SD5 (io), 13 SC5 (out), 14 SD6 (io), 15 SC6 (out), 16 SD7 (out), 17 SC7 (io), 18 A2 (in), 19 SCL (in), 20 SDA (io), 21 VCC, 22 A0 (in), 23 A1 (in), 24 nRESET (in), P GND

## TCAN1042V
designator U?
pins: 1 TXD (in), 2 GND, 3 VCC, 4 RXD (out), 5 VIO, 6 CANL (io), 7 CANH (io), 8 STB (in), P GND

## TMP112
designator U?
pins: 1 SCL (in), 2 GND, 3 ALTERT (out), 4 ADDD0 (in), 5 VCC, 6 SDA (io)

## TMP423
designator U?
pins: 1 DXP1 (in), 2 DXP2 (in), 3 DXP3 (in), 4 DXN (in), 5 GND, 6 SDA (io), 7 SCL (in), 8 V+

## TPD4E02B04
designator U?
pins: 1 A1, 2 A2, 3 A3, 4 A4, 5 A5

## TPS7A30_49
designator U?
pins: 1 OUT (out), 2 FB (in), 3 NC, 4 GND, 5 EN (in), 6 NR/SS, 7 DNC, 8 IN (in), P GND

## TPS7A47
designator U?
pins: 1 OUT, 2 NC, 3 SENSE/FB (in), 4 6P4V2 (in), 5 6P4V1 (in), 6 3P2V (in), 7 GND, 8 1P6V (in), 9 0P8V (in), 10 0P4V (in), 11 0P2V (in), 12 0P1V (in), 13 EN (in), 14 NR, 15 IN (in), 16 IN (in), 17 NC, 18 NC, 19 NC, 20 OUT, P GND

## TPS7A3401
designator U?
pins: 1 OUT (out), 2 FB (in), 3 GND, 4 GND, 5 EN (in), 6 GND, 7 GND, 8 IN (in), P GND

## TPS7A8101
designator U?
pins: 1 OUT (out), 2 OUT (out), 3 FB (in), 4 GND, 5 EN (in), 6 NR, 7 IN (in), 8 IN (in), P GND

## TPS7A8300
designator U?
pins: 1 OUT (out), 2 SNS (in), 3 FB (in), 4 PG (out), 5 50mV (in), 6 100mV (in), 7 200mV (in), 8 GND, 9 400mV (in), 10 800mV (in), 11 1.6V (in), 12 BIAS (in), 13 NR/SS (in), 14 EN (in), 15 IN (in), 16 IN (in), 17 IN (in), 18 GND, 19 OUT, 20 OUT, P GND

## TPS7B6701
designator U?
pins: 1 PGOOD/RST (out), 2 NC, 3 DELAY, 4 VOUT, 5 ADJ (in), 6 NC, 7 NC, 8 GND, 9 NC, 10 NC, 11 NC, 12 NC, 13 GND, 14 NC, 15 EN (in), 16 NC, 17 NC, 18 NC, 19 VIN, 20 NC, P PAD

## TPS748
designator U?
pins: 1 IN (in), 2 IN (in), 3 PG (out), 4 BIAS (in), 5 EN (in), 6 GND, 7 SS (in), 8 FB (in), 9 OUT, 10 OUT (out), P GND

## TPS2002CDRC
designator U?
pins: 1 GND, 2 IN, 3 IN, 4 nEN1 (in), 5 nEN2 (in), 6 nFLT2 (out), 7 NC, 8 OUT2 (out), 9 OUT1 (out), 10 nFLT1 (out), P GND

## TPS2003CDRC
designator U?
pins: 1 GND, 2 IN, 3 IN, 4 EN1 (in), 5 EN2 (in), 6 nFLT2 (out), 7 NC, 8 OUT2 (out), 9 OUT1 (out), 10 nFLT1 (out), P GND

## TPS2041B
designator U?
pins: 1 OUT (out), 2 GND, 3 nFLT (out), 4 nEN (in), 5 IN (in)

## TPS2051C
designator U?
pins: 1 OUT (out), 2 GND, 3 nFLT (out), 4 EN (in), 5 IN (in)

## TPS3801
designator U?
footprint SOT-353
pins: 1 GND, 2 GND, 3 RESET# (out), 4 VDD, 5 MR# (in)

## TPS3828
designator U?
footprint SOT-353
pins: 1 RESET# (out), 2 GND, 3 MR# (in), 4 WDI (in), 5 VDD

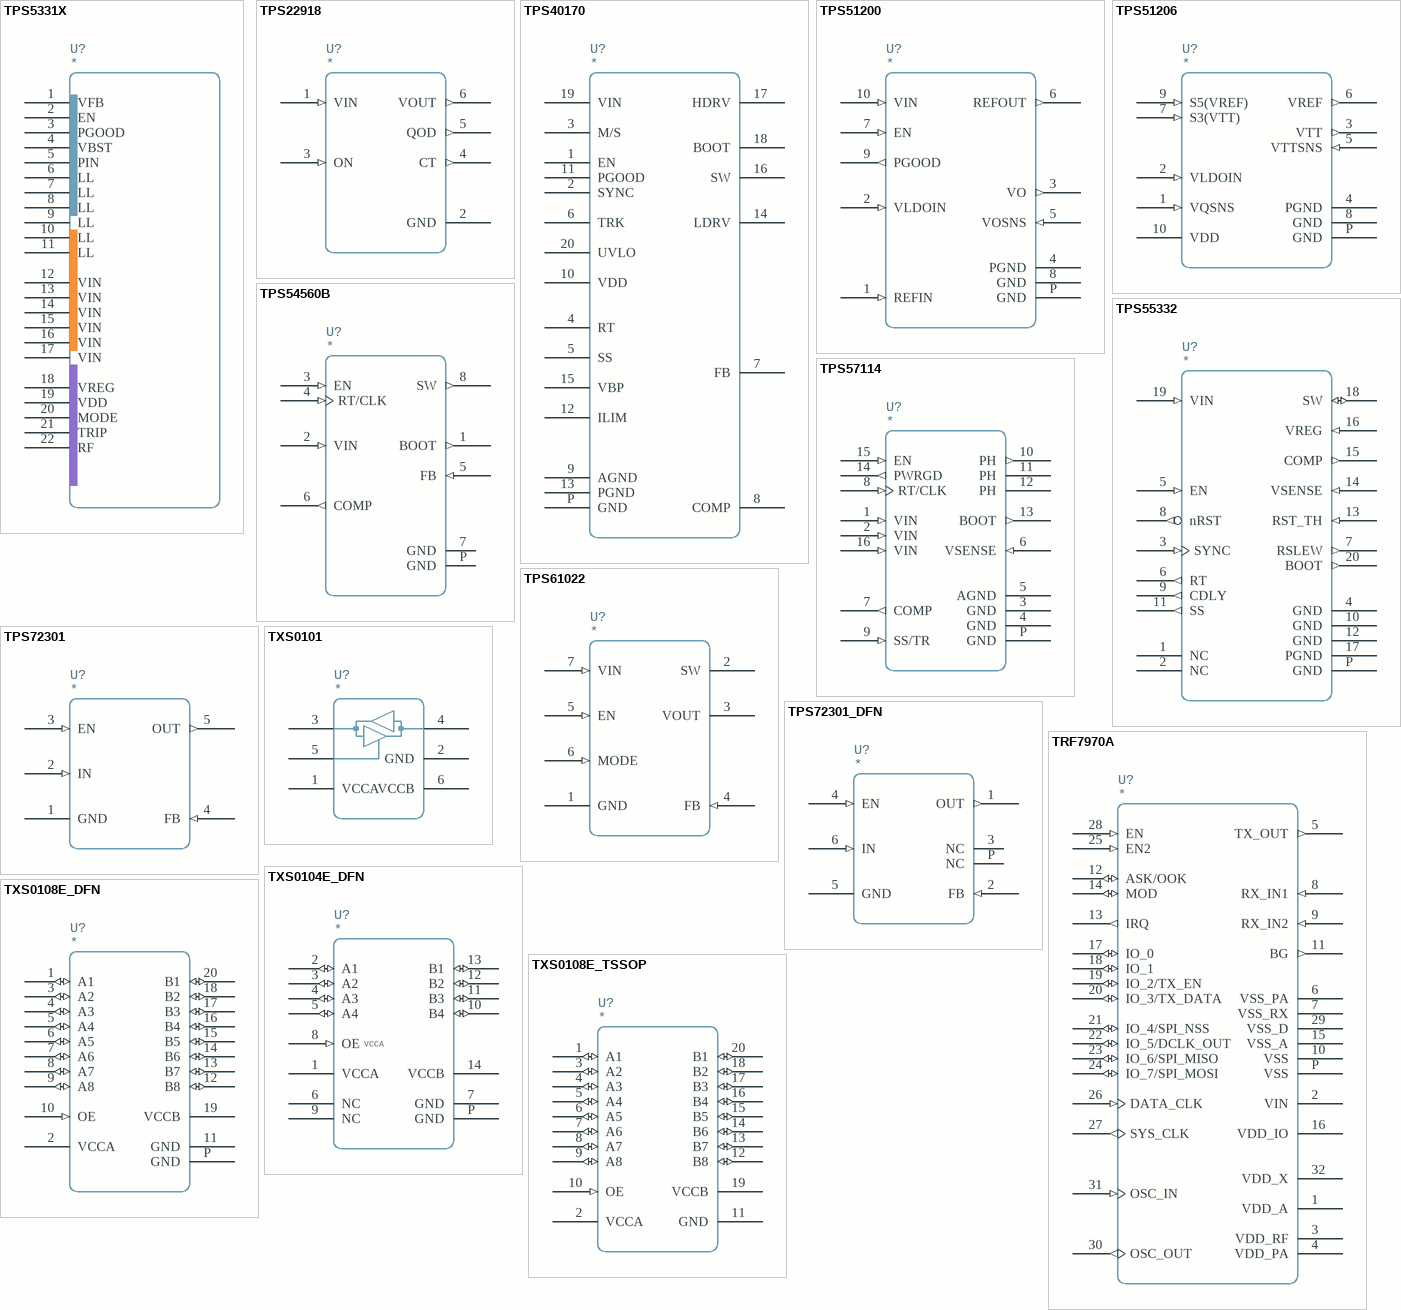
[diagram p5: symbols TPS5331X to TXS0108E_TSSOP]

## TPS5331X
designator U?
pins: 1 VFB, 2 EN, 3 PGOOD, 4 VBST, 5 PIN, 6 LL, 7 LL, 8 LL, 9 LL, 10 LL, 11 LL, 12 VIN, 13 VIN, 14 VIN, 15 VIN, 16 VIN, 17 VIN, 18 VREG, 19 VDD, 20 MODE, 21 TRIP, 22 RF

## TPS22918
designator U?
pins: 1 VIN (in), 2 GND, 3 ON (in), 4 CT (out), 5 QOD (out), 6 VOUT (out)

## TPS40170
designator U?
pins: 1 EN, 2 SYNC, 3 M/S, 4 RT, 5 SS, 6 TRK, 7 FB, 8 COMP, 9 AGND, 10 VDD, 11 PGOOD, 12 ILIM, 13 PGND, 14 LDRV, 15 VBP, 16 SW, 17 HDRV, 18 BOOT, 19 VIN, 20 UVLO, P GND

## TPS51200
designator U?
pins: 1 REFIN (in), 2 VLDOIN (in), 3 VO (out), 4 PGND, 5 VOSNS (in), 6 REFOUT (out), 7 EN (in), 8 GND, 9 PGOOD (out), 10 VIN (in), P GND

## TPS51206
designator U?
pins: 1 VQSNS (in), 2 VLDOIN (in), 3 VTT (out), 4 PGND, 5 VTTSNS (in), 6 VREF (out), 7 S3(VTT) (in), 8 GND, 9 S5(VREF) (in), 10 VDD, P GND

## TPS54560B
designator U?
pins: 1 BOOT (out), 2 VIN (in), 3 EN (in), 4 RT/CLK (in), 5 FB (in), 6 COMP (out), 7 GND, 8 SW (out), P GND

## TPS55332
designator U?
pins: 1 NC, 2 NC, 3 SYNC (in), 4 GND, 5 EN (in), 6 RT (out), 7 RSLEW (out), 8 nRST (out), 9 CDLY (out), 10 GND, 11 SS (out), 12 GND, 13 RST_TH (in), 14 VSENSE (in), 15 COMP (out), 16 VREG (in), 17 PGND, 18 SW (io), 19 VIN (in), 20 BOOT (out), P GND

## TPS57114
designator U?
pins: 1 VIN (in), 2 VIN (in), 3 GND, 4 GND, 5 AGND, 6 VSENSE (in), 7 COMP (out), 8 RT/CLK (in), 9 SS/TR (in), 10 PH (out), 11 PH, 12 PH, 13 BOOT (out), 14 PWRGD (out), 15 EN (in), 16 VIN (in), P GND

## TPS61022
designator U?
pins: 1 GND, 2 SW, 3 VOUT, 4 FB (in), 5 EN (in), 6 MODE (in), 7 VIN (in)

## TPS72301
designator U?
pins: 1 GND, 2 IN (in), 3 EN (in), 4 FB (in), 5 OUT (out)

## TPS72301_DFN
designator U?
pins: 1 OUT (out), 2 FB (in), 3 NC, 4 EN (in), 5 GND, 6 IN (in), P NC

## TRF7970A
designator U?
pins: 1 VDD_A, 2 VIN, 3 VDD_RF, 4 VDD_PA, 5 TX_OUT (out), 6 VSS_PA, 7 VSS_RX, 8 RX_IN1 (in), 9 RX_IN2 (in), 10 VSS, 11 BG (out), 12 ASK/OOK (io), 13 IRQ (out), 14 MOD (io), 15 VSS_A, 16 VDD_IO, 17 IO_0 (io), 18 IO_1 (io), 19 IO_2/TX_EN (io), 20 IO_3/TX_DATA (io), 21 IO_4/SPI_NSS (io), 22 IO_5/DCLK_OUT (io), 23 IO_6/SPI_MISO (io), 24 IO_7/SPI_MOSI (io), 25 EN2 (in), 26 DATA_CLK (in), 27 SYS_CLK (out), 28 EN (in), 29 VSS_D, 30 OSC_OUT (out), 31 OSC_IN (in), 32 VDD_X, P VSS

## TXS0101
designator U?
pins: 1 VCCA, 2 GND, 3 A, 4 B, 5 OE, 6 VCCB

## TXS0104E_DFN
designator U?
pins: 1 VCCA, 2 A1 (io), 3 A2 (io), 4 A3 (io), 5 A4 (io), 6 NC, 7 GND, 8 OE (in), 9 NC, 10 B4 (io), 11 B3 (io), 12 B2 (io), 13 B1 (io), 14 VCCB, P GND

## TXS0108E_DFN
designator U?
pins: 1 A1 (io), 2 VCCA, 3 A2 (io), 4 A3 (io), 5 A4 (io), 6 A5 (io), 7 A6 (io), 8 A7 (io), 9 A8 (io), 10 OE (in), 11 GND, 12 B8 (io), 13 B7 (io), 14 B6 (io), 15 B5 (io), 16 B4 (io), 17 B3 (io), 18 B2 (io), 19 VCCB, 20 B1 (io), P GND

## TXS0108E_TSSOP
designator U?
pins: 1 A1 (io), 2 VCCA, 3 A2 (io), 4 A3 (io), 5 A4 (io), 6 A5 (io), 7 A6 (io), 8 A7 (io), 9 A8 (io), 10 OE (in), 11 GND, 12 B8 (io), 13 B7 (io), 14 B6 (io), 15 B5 (io), 16 B4 (io), 17 B3 (io), 18 B2 (io), 19 VCCB, 20 B1 (io)

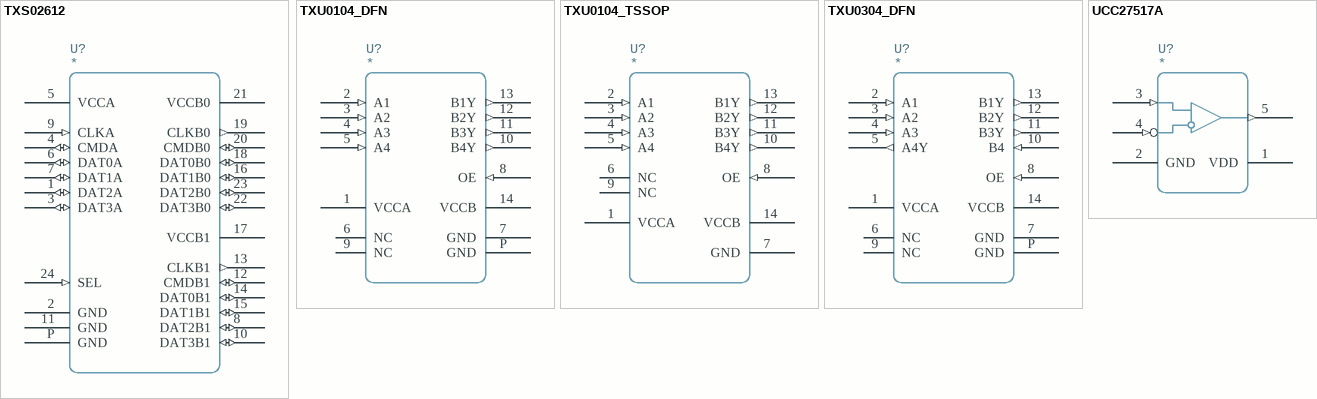
[diagram p6: symbols TXS02612 to UCC27517A]

## TXS02612
designator U?
pins: 1 DAT2A (io), 2 GND, 3 DAT3A (io), 4 CMDA (io), 5 VCCA, 6 DAT0A (io), 7 DAT1A (io), 8 DAT2B1 (io), 9 CLKA (in), 10 DAT3B1 (io), 11 GND, 12 CMDB1 (io), 13 CLKB1 (out), 14 DAT0B1 (io), 15 DAT1B1 (io), 16 DAT1B0 (io), 17 VCCB1, 18 DAT0B0 (io), 19 CLKB0 (out), 20 CMDB0 (io), 21 VCCB0, 22 DAT3B0 (io), 23 DAT2B0 (io), 24 SEL (in), P GND

## TXU0104_DFN
designator U?
pins: 1 VCCA, 2 A1 (in), 3 A2 (in), 4 A3 (in), 5 A4 (in), 6 NC, 7 GND, 8 OE (in), 9 NC, 10 B4Y (out), 11 B3Y (out), 12 B2Y (out), 13 B1Y (out), 14 VCCB, P GND

## TXU0104_TSSOP
designator U?
pins: 1 VCCA, 2 A1 (in), 3 A2 (in), 4 A3 (in), 5 A4 (in), 6 NC, 7 GND, 8 OE (in), 9 NC, 10 B4Y (out), 11 B3Y (out), 12 B2Y (out), 13 B1Y (out), 14 VCCB

## TXU0304_DFN
designator U?
pins: 1 VCCA, 2 A1 (in), 3 A2 (in), 4 A3 (in), 5 A4Y (out), 6 NC, 7 GND, 8 OE (in), 9 NC, 10 B4 (in), 11 B3Y (out), 12 B2Y (out), 13 B1Y (out), 14 VCCB, P GND

## UCC27517A
designator U?
pins: 1 VDD, 2 GND, 3 IN+ (in), 4 IN- (in), 5 OUT (out)